# Altium footprint library lib_foot_print.PcbLib: 19 footprints (part 1 of 2)
Each footprint in its own frame and in the unit in brackets; x right, y up, seen from the top. Pads: shape width x height; smd on the part's side, far side on the other; paste and mask are expansions set on the pad; w line width, h text height; cw(c..) or ccw(c..) is an arc to the next point about the centre after c.
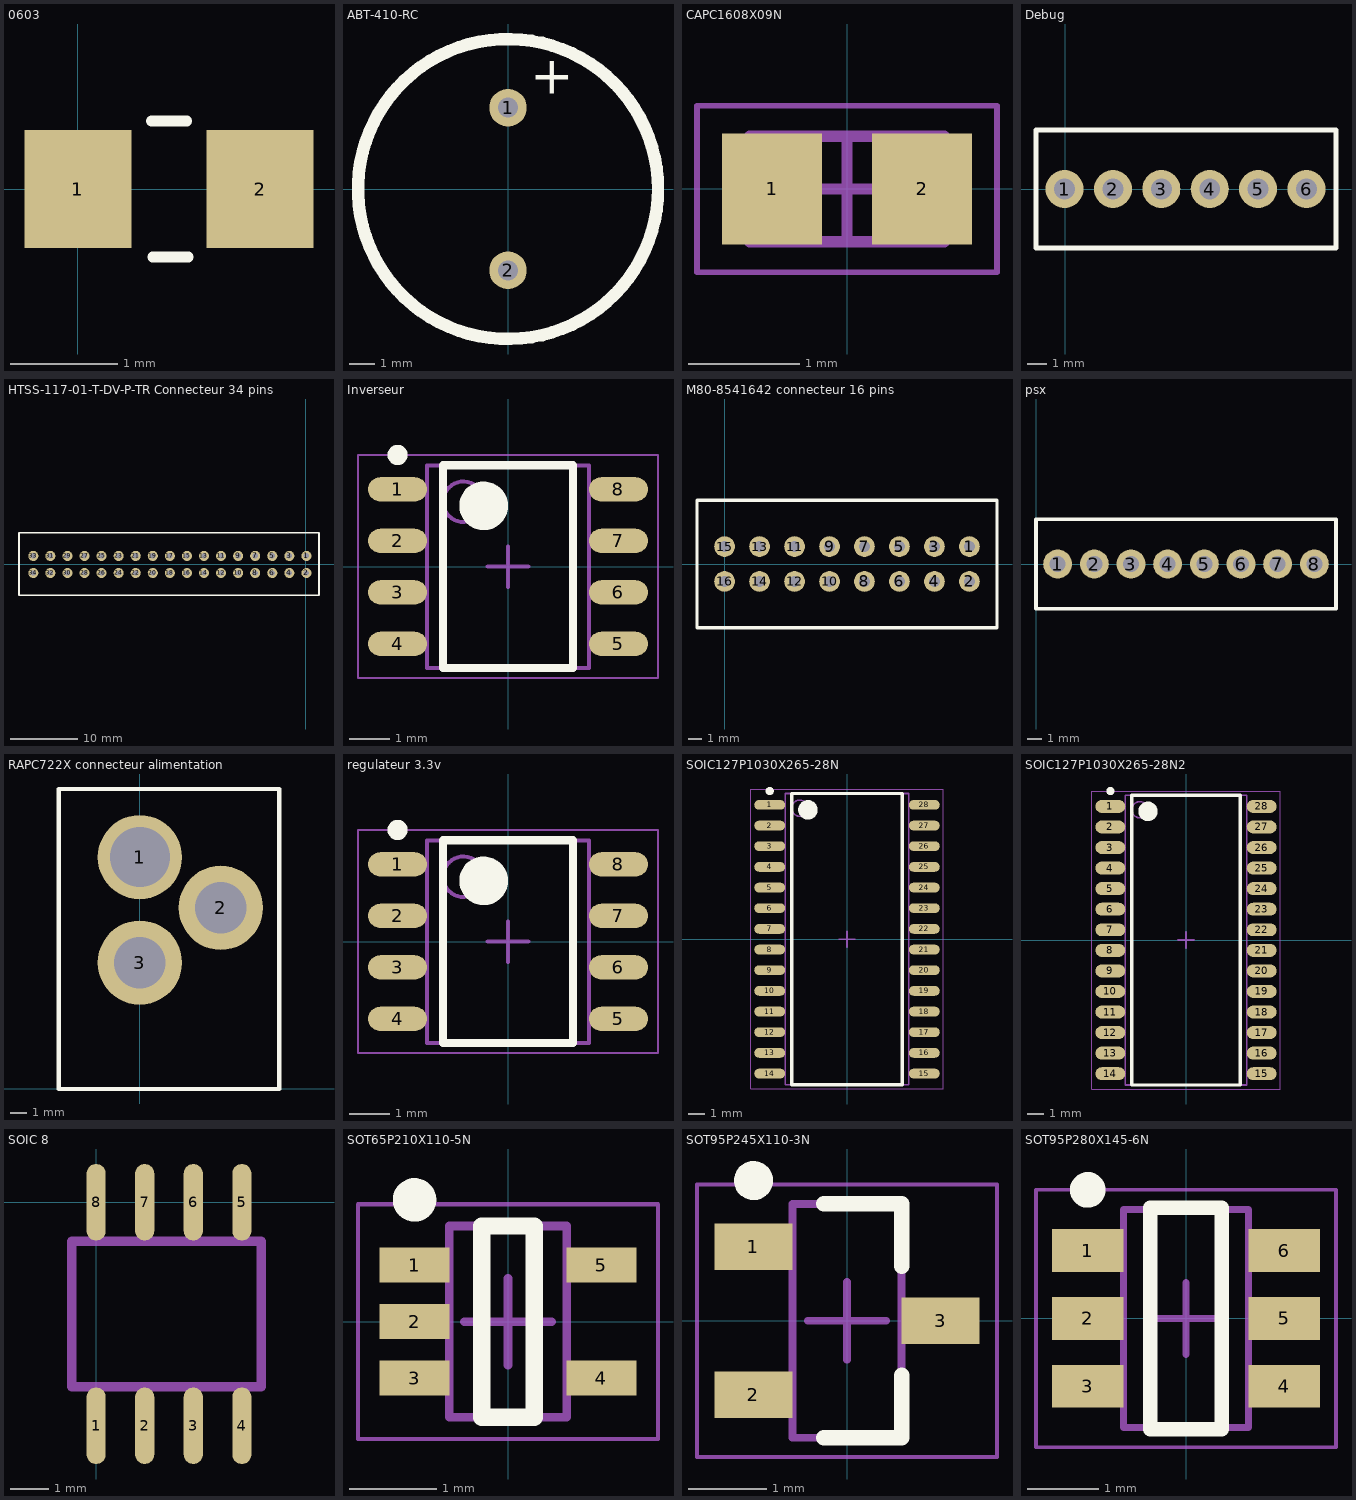
[diagram p0: the footprints below, top view; thin cyan lines are the x and y axes]

## 0603 [mm]
pads (2):
  rect 1x1.1 smd: 1(0,0) 2(1.7,0)
Top Overlay:
  lines w0.1: 0.686,0.635 1.016,0.635 ; 0.699,-0.635 1.029,-0.635

## ABT-410-RC [mm]
pads (2):
  round 1.5 hole 0.8: 1(0,3.25) 2(0,-3.25)
Top Overlay:
  circle w0.5: c0,0 r6
  text "+" at 0.889,3.81 h1.52

## CAPC1608X09N [mm] "Chip Capacitor, 2-Leads, Body 1.60x0.80mm, IPC Medium Density"
height 0.9
pads (2):
  rect 0.9x1 smd: 1(-0.675,0) 2(0.675,0)
Mechanical 13:
  lines w0.1: -0.875,-0.475 -0.875,0.475 0.875,0.475 0.875,-0.475 -0.875,-0.475
Mechanical 15:
  lines w0.05: -1.35,-0.75 -1.35,0.75 1.35,0.75 1.35,-0.75 -1.35,-0.75
  lines w0.1: -0.475,0 0.475,0 ; 0,-0.475 0,0.475
3D body: height 0.9, standoff 0, extent -0.525,-0.475 0.525,0.475
3D body: height 0.9, standoff 0, extent -0.875,-0.475 -0.525,0.475
3D body: height 0.9, standoff 0, extent 0.525,-0.475 0.875,0.475

## Debug [mm]
pads (6):
  round 2 hole 1.1: 1(-0.024,0) 2(2.516,0) 3(5.056,0) 4(7.596,0) 5(10.136,0) 6(12.676,0)
Top Overlay:
  lines w0.254: -1.524,-3.1 -1.524,3.1 14.224,3.1 14.224,-3.1 -1.524,-3.1

## HTSS-117-01-T-DV-P-TR Connecteur 34 pins [mm]
pads (34):
  round 1.5 hole 0.8: 1(0.127,1.206) 2(0.127,-1.334) 3(-2.413,1.206) 4(-2.413,-1.334) 5(-4.953,1.206) 6(-4.953,-1.334) 7(-7.493,1.206) 8(-7.493,-1.334) 9(-10.033,1.206) 10(-10.033,-1.334) 11(-12.573,1.206) 12(-12.573,-1.334) 13(-15.113,1.206) 14(-15.113,-1.334) 15(-17.653,1.206) 16(-17.653,-1.334) 17(-20.193,1.206) 18(-20.193,-1.334) 19(-22.733,1.206) 20(-22.733,-1.334) 21(-25.273,1.206) 22(-25.273,-1.334) 23(-27.813,1.206) 24(-27.813,-1.334) 25(-30.353,1.206) 26(-30.353,-1.334) 27(-32.893,1.206) 28(-32.893,-1.334) 29(-35.433,1.206) 30(-35.433,-1.334) 31(-37.973,1.206) 32(-37.973,-1.334) 33(-40.513,1.206) 34(-40.513,-1.334)
Top Overlay:
  lines w0.254: -42.64,-4.635 2,-4.635 2,4.635 -42.64,4.635 -42.64,-4.635

## Inverseur [mm] "SOIC, 8-Leads, Body 4.90x3.90mm, Pitch 1.27mm, IPC Medium Density"
height 1.75
pads (8):
  oval 1.45x0.6 smd: 1(-2.725,1.905) 2(-2.725,0.635) 3(-2.725,-0.635) 4(-2.725,-1.905) 5(2.725,-1.905) 6(2.725,-0.635) 7(2.725,0.635) 8(2.725,1.905)
Top Overlay:
  circle w0.6: c-0.6,1.5 r0.3
  circle w0.25: c-2.725,2.755 r0.125
  lines w0.2: -1.6,-2.5 1.6,-2.5 1.6,2.5 -1.6,2.5 -1.6,-2.5
Mechanical 13:
  circle w0.1: c-1.1,1.6 r0.5
  lines w0.1: -2,-2.5 2,-2.5 2,2.5 -2,2.5 -2,-2.5
Mechanical 15:
  lines w0.05: -3.7,-2.75 3.7,-2.75 3.7,2.75 -3.7,2.75 -3.7,-2.75
  lines w0.1: -0.5,0 0.5,0 ; 0,-0.5 0,0.5
3D body: height 1.75, standoff 0, extent -2,-2.5 2,2.5

## M80-8541642 connecteur 16 pins [mm]
pads (16):
  round 1.5 hole 0.8: 1(17.78,1.27) 2(17.78,-1.27) 3(15.24,1.27) 4(15.24,-1.27) 5(12.7,1.27) 6(12.7,-1.27) 7(10.16,1.27) 8(10.16,-1.27) 9(7.62,1.27) 10(7.62,-1.27) 11(5.08,1.27) 12(5.08,-1.27) 13(2.54,1.27) 14(2.54,-1.27) 15(0,1.27) 16(0,-1.27)
Top Overlay:
  lines w0.254: -2,-4.635 19.78,-4.635 19.78,4.635 -2,4.635 -2,-4.635

## psx [mm]
pads (8):
  round 2 hole 1.1: 1(1.5,0) 2(4.04,0) 3(6.58,0) 4(9.12,0) 5(11.66,0) 6(14.2,0) 7(16.74,0) 8(19.28,0)
Top Overlay:
  lines w0.254: 0,-3.1 20.78,-3.1 20.78,3.1 0,3.1 0,-3.1

## RAPC722X connecteur alimentation [mm]
pads (3):
  round 5 hole 3.56: 1(0,13.74)
  round 5 hole 3.05: 2(4.8,10.74) 3(0,7.49)
Top Overlay:
  lines w0.254: -4.8,0 8.255,0 8.255,17.78 -4.8,17.78 -4.8,0

## regulateur 3.3v [mm] "SOIC, 8-Leads, Body 4.90x3.90mm, Pitch 1.27mm, IPC Medium Density"
height 1.75
pads (8):
  oval 1.45x0.6 smd: 1(-2.725,1.905) 2(-2.725,0.635) 3(-2.725,-0.635) 4(-2.725,-1.905) 5(2.725,-1.905) 6(2.725,-0.635) 7(2.725,0.635) 8(2.725,1.905)
Top Overlay:
  circle w0.25: c-2.725,2.755 r0.125
  circle w0.6: c-0.6,1.5 r0.3
  lines w0.2: -1.6,-2.5 -1.6,2.5 1.6,2.5 1.6,-2.5 -1.6,-2.5
Mechanical 13:
  circle w0.1: c-1.1,1.6 r0.5
  lines w0.1: -2,-2.5 -2,2.5 2,2.5 2,-2.5 -2,-2.5
Mechanical 15:
  lines w0.05: -3.7,-2.75 -3.7,2.75 3.7,2.75 3.7,-2.75 -3.7,-2.75
  lines w0.1: -0.5,0 0.5,0 ; 0,-0.5 0,0.5
3D body: height 1.75, standoff 0.1, extent -2,-2.5 2,2.5

## SOIC127P1030X265-28N [mm] "SOIC, 28-Leads, Body 17.90x7.50mm, Pitch 1.27mm, IPC Medium Density"
height 2.65
pads (28):
  oval 1.9x0.6 smd: 1(-4.75,8.255) 2(-4.75,6.985) 3(-4.75,5.715) 4(-4.75,4.445) 5(-4.75,3.175) 6(-4.75,1.905) 7(-4.75,0.635) 8(-4.75,-0.635) 9(-4.75,-1.905) 10(-4.75,-3.175) 11(-4.75,-4.445) 12(-4.75,-5.715) 13(-4.75,-6.985) 14(-4.75,-8.255) 15(4.75,-8.255) 16(4.75,-6.985) 17(4.75,-5.715) 18(4.75,-4.445) 19(4.75,-3.175) 20(4.75,-1.905) 21(4.75,-0.635) 22(4.75,0.635) 23(4.75,1.905) 24(4.75,3.175) 25(4.75,4.445) 26(4.75,5.715) 27(4.75,6.985) 28(4.75,8.255)
Top Overlay:
  circle w0.25: c-4.75,9.105 r0.125
  circle w0.6: c-2.4,7.95 r0.3
  lines w0.2: -3.4,-8.95 -3.4,8.95 3.4,8.95 3.4,-8.95 -3.4,-8.95
Mechanical 13:
  circle w0.1: c-2.9,8.05 r0.5
  lines w0.1: -3.8,-8.95 -3.8,8.95 3.8,8.95 3.8,-8.95 -3.8,-8.95
Mechanical 15:
  lines w0.05: -5.925,-9.2 -5.925,9.2 5.925,9.2 5.925,-9.2 -5.925,-9.2
  lines w0.1: -0.5,0 0.5,0 ; 0,-0.5 0,0.5
3D body: height 2.65, standoff 0.1, extent -3.8,-8.95 3.8,8.95

## SOIC127P1030X265-28N2 [mm] "SOIC, 28-Leads, Body 17.90x7.45mm, Pitch 1.27mm, IPC Medium Density"
height 2.65
pads (28):
  oval 1.85x0.8 smd: 1(-4.675,8.255) 2(-4.675,6.985) 3(-4.675,5.715) 4(-4.675,4.445) 5(-4.675,3.175) 6(-4.675,1.905) 7(-4.675,0.635) 8(-4.675,-0.635) 9(-4.675,-1.905) 10(-4.675,-3.175) 11(-4.675,-4.445) 12(-4.675,-5.715) 13(-4.675,-6.985) 14(-4.675,-8.255) 15(4.675,-8.255) 16(4.675,-6.985) 17(4.675,-5.715) 18(4.675,-4.445) 19(4.675,-3.175) 20(4.675,-1.905) 21(4.675,-0.635) 22(4.675,0.635) 23(4.675,1.905) 24(4.675,3.175) 25(4.675,4.445) 26(4.675,5.715) 27(4.675,6.985) 28(4.675,8.255)
Top Overlay:
  circle w0.6: c-2.35,7.95 r0.3
  circle w0.25: c-4.675,9.205 r0.125
  lines w0.2: -3.35,-8.95 3.35,-8.95 3.35,8.95 -3.35,8.95 -3.35,-8.95
Mechanical 13:
  circle w0.1: c-2.85,8.05 r0.5
  lines w0.1: -3.75,-8.95 3.75,-8.95 3.75,8.95 -3.75,8.95 -3.75,-8.95
Mechanical 15:
  lines w0.05: -5.825,-9.2 5.825,-9.2 5.825,9.2 -5.825,9.2 -5.825,-9.2
  lines w0.1: -0.5,0 0.5,0 ; 0,-0.5 0,0.5
3D body: height 2.65, standoff 0.1, extent -3.75,-8.95 3.75,8.95

## SOIC 8 [mm]
pads (8):
  oval 0.5x2 smd: 1(0,-5.842) 2(1.27,-5.842) 3(2.54,-5.842) 4(3.81,-5.842) 5(3.81,0) 6(2.54,0) 7(1.27,0) 8(0,0)
Mechanical 1:
  lines w0.254: -0.635,-4.826 4.318,-4.826 4.318,-1.016 -0.635,-1.016 -0.635,-4.826

## SOT65P210X110-5N [mm] "SOT23, 5-Leads, Body 2.00x2.10mm, Pitch 0.65mm, IPC Medium Density"
height 1.1
pads (5):
  rect 0.8x0.4 smd mask+0.13: 1(-1.075,0.65) 2(-1.075,0) 3(-1.075,-0.65)
  rect 0.8x0.4 smd: 4(1.075,-0.65) 5(1.075,0.65)
Top Overlay:
  circle w0.25: c-1.075,1.4 r0.125
  lines w0.2: -0.3,-1.1 0.3,-1.1 0.3,1.1 -0.3,1.1 -0.3,-1.1
Mechanical 13:
  lines w0.1: -0.675,-1.1 -0.675,1.1 0.675,1.1 0.675,-1.1 -0.675,-1.1
Mechanical 15:
  lines w0.05: -1.725,-1.35 -1.725,1.35 1.725,1.35 1.725,-1.35 -1.725,-1.35
  lines w0.1: -0.5,0 0.5,0 ; 0,-0.5 0,0.5
3D body: height 1.1, standoff 0.05, extent -0.675,-1.1 0.675,1.1

## SOT95P245X110-3N [mm] "SOT23, 3-Leads, Body 2.90x2.45mm, Pitch 0.95mm, IPC Medium Density"
height 1.1
pads (3):
  rect 1x0.6 smd: 1(-1.2,0.95) 2(-1.2,-0.95) 3(1.2,0)
Top Overlay:
  circle w0.25: c-1.2,1.8 r0.125
  lines w0.2: -0.3,-1.5 0.7,-1.5 0.7,-0.7 ; -0.3,1.5 0.7,1.5 0.7,0.7
Mechanical 13:
  lines w0.1: -0.7,-1.5 0.7,-1.5 0.7,1.5 -0.7,1.5 -0.7,-1.5
Mechanical 15:
  lines w0.05: -1.925,-1.75 1.925,-1.75 1.925,1.75 -1.925,1.75 -1.925,-1.75
  lines w0.1: -0.5,0 0.5,0 ; 0,-0.5 0,0.5
3D body: height 1.1, standoff 0.05, extent -0.7,-1.5 0.7,1.5

## SOT95P280X145-6N [mm] "SOT23, 6-Leads, Body 2.90x2.80mm, Pitch 0.95mm, IPC Medium Density"
height 1.45
pads (6):
  rect 1x0.6 smd mask+0.2: 1(-1.375,0.95) 2(-1.375,0) 3(-1.375,-0.95) 4(1.375,-0.95) 5(1.375,0) 6(1.375,0.95)
Top Overlay:
  circle w0.25: c-1.375,1.8 r0.125
  lines w0.2: -0.5,-1.55 0.5,-1.55 0.5,1.55 -0.5,1.55 -0.5,-1.55
Mechanical 13:
  lines w0.1: -0.875,-1.525 -0.875,1.525 0.875,1.525 0.875,-1.525 -0.875,-1.525
Mechanical 15:
  lines w0.05: -2.1,-1.8 -2.1,1.8 2.1,1.8 2.1,-1.8 -2.1,-1.8
  lines w0.1: -0.5,0 0.5,0 ; 0,-0.5 0,0.5
3D body: height 1.45, standoff 0, extent -0.875,-1.525 0.875,1.525